# EAGLE library part 1.25T-2-7A (library Deegou_Connector)
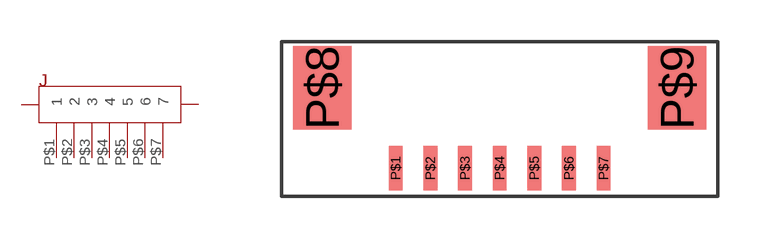
[diagram p18: symbol with the pads of 1.25T-2-7A; footprint 1.25T-2-7A]

Designator prefix J

## 1.25T-2-7A1.25MM  [1.25T-2-7A]
P$1  1
P$2  2
P$3  3
P$4  4
P$5  5
P$6  6
P$7  7
P$8  P$1
P$9  P$2

## Footprint 1.25T-2-7A (pad centres in mm)
smd 0.5 x 1.6: P$1 -3.75,0; P$2 -2.5,0; P$3 -1.25,0; P$4 0,0; P$5 1.25,0; P$6 2.5,0; P$7 3.75,0
smd 2.1 x 3: P$8 -6.4,2.9; P$9 6.4,2.9